# Altium footprint library IDC2.54-H50C.PcbLib: 1 footprints
Each footprint in its own frame and in the unit in brackets; x right, y up, seen from the top. Pads: shape width x height; smd on the part's side, far side on the other; paste and mask are expansions set on the pad; w line width, h text height; cw(c..) or ccw(c..) is an arc to the next point about the centre after c.
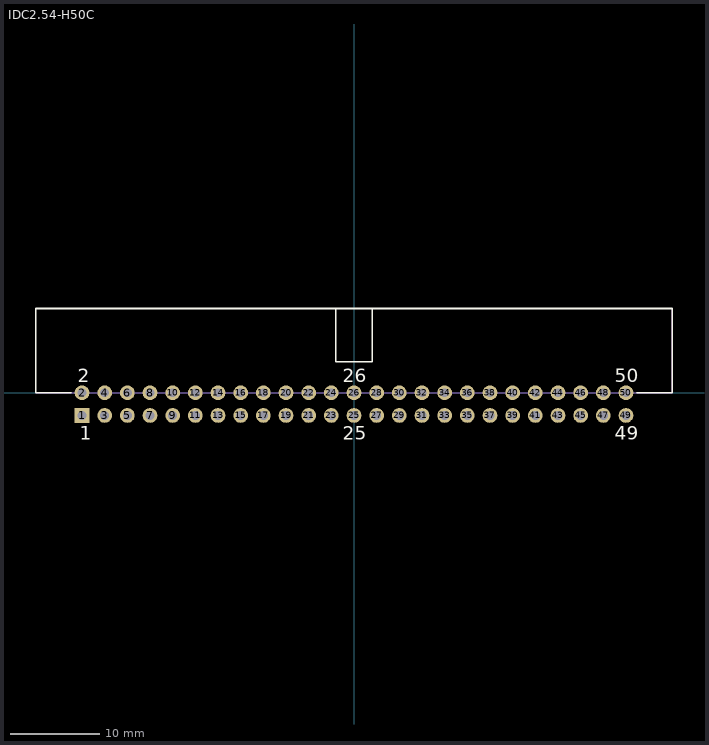
[diagram p0: the footprint, top view; thin cyan lines are the x and y axes]

## IDC2.54-H50C [mm] "Connector; IDC, Low Profile Male Header, Thru-Hole; 50 Position; Right Angle; Pitch 2.54 mm; Body 71.32 x 8.9 x 9.2 mm (LxWxH)"
height 9.2
pads (50):
  rect 1.65x1.65 hole 1: 1(-30.48,-2.54)
  round 1.65 hole 1: 2(-30.48,0) 3(-27.94,-2.54) 4(-27.94,0) 5(-25.4,-2.54) 6(-25.4,0) 7(-22.86,-2.54) 8(-22.86,0) 9(-20.32,-2.54) 10(-20.32,0) 11(-17.78,-2.54) 12(-17.78,0) 13(-15.24,-2.54) 14(-15.24,0) 15(-12.7,-2.54) 16(-12.7,0) 17(-10.16,-2.54) 18(-10.16,0) 19(-7.62,-2.54) 20(-7.62,0) 21(-5.08,-2.54) 22(-5.08,0) 23(-2.54,-2.54) 24(-2.54,0) 25(0,-2.54) 26(0,0) 27(2.54,-2.54) 28(2.54,0) 29(5.08,-2.54) 30(5.08,0) 31(7.62,-2.54) 32(7.62,0) 33(10.16,-2.54) 34(10.16,0) 35(12.7,-2.54) 36(12.7,0) 37(15.24,-2.54) 38(15.24,0) 39(17.78,-2.54) 40(17.78,0) 41(20.32,-2.54) 42(20.32,0) 43(22.86,-2.54) 44(22.86,0) 45(25.4,-2.54) 46(25.4,0) 47(27.94,-2.54) 48(27.94,0) 49(30.48,-2.54) 50(30.48,0)
Top Overlay:
  lines w0.2: -31.705,0 -35.66,0 -35.66,9.45 35.66,9.45 35.66,0 31.705,0 ; -2.05,9.45 -2.05,3.48 2.05,3.48 2.05,9.45
  text "25" at -1.25,-5.24 h1.5
  text "26" at -1.25,1.2 h1.5
  text "50" at 29.21,1.2 h1.5
  text "49" at 29.23,-5.24 h1.5
  text "2" at -30.98,1.2 h1.5
  text "1" at -30.73,-5.24 h1.5
Mechanical 13:
  lines w0.1: -35.66,0 -35.66,9.45 35.66,9.45 35.66,0 -35.66,0
3D body: height 9.2, standoff 0, extent -35.66,0 35.66,9.45